# Altium schematic symbol library Opto.SchLib: 4 symbols
Pins are listed as number, name and electrical type; pins without a type are passive.

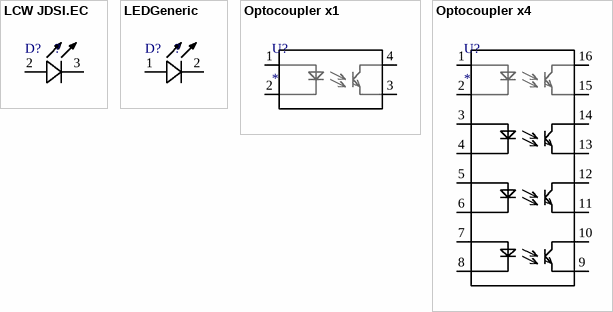
[diagram p0: symbols LCW JDSI.EC to Optocoupler x4]

## LCW JDSI.EC
designator D?, comment ?
Name: ?
pins: 2, 3

## LEDGeneric
designator D?, comment ?
Name: ?
pins: 1, 2

## Optocoupler x1
designator U?
Name: *
pins: 1 17, 2 17, 3 17, 4 17

## Optocoupler x4
designator U?
Name: *
pins: 1, 2, 3, 4, 5, 6, 7, 8, 9, 10, 11, 12, 13, 14, 15, 16